# Altium integrated library TI_Logic_Flip-Flop,Latch,Register.IntLib: 2598 symbols (part 12 of 122)
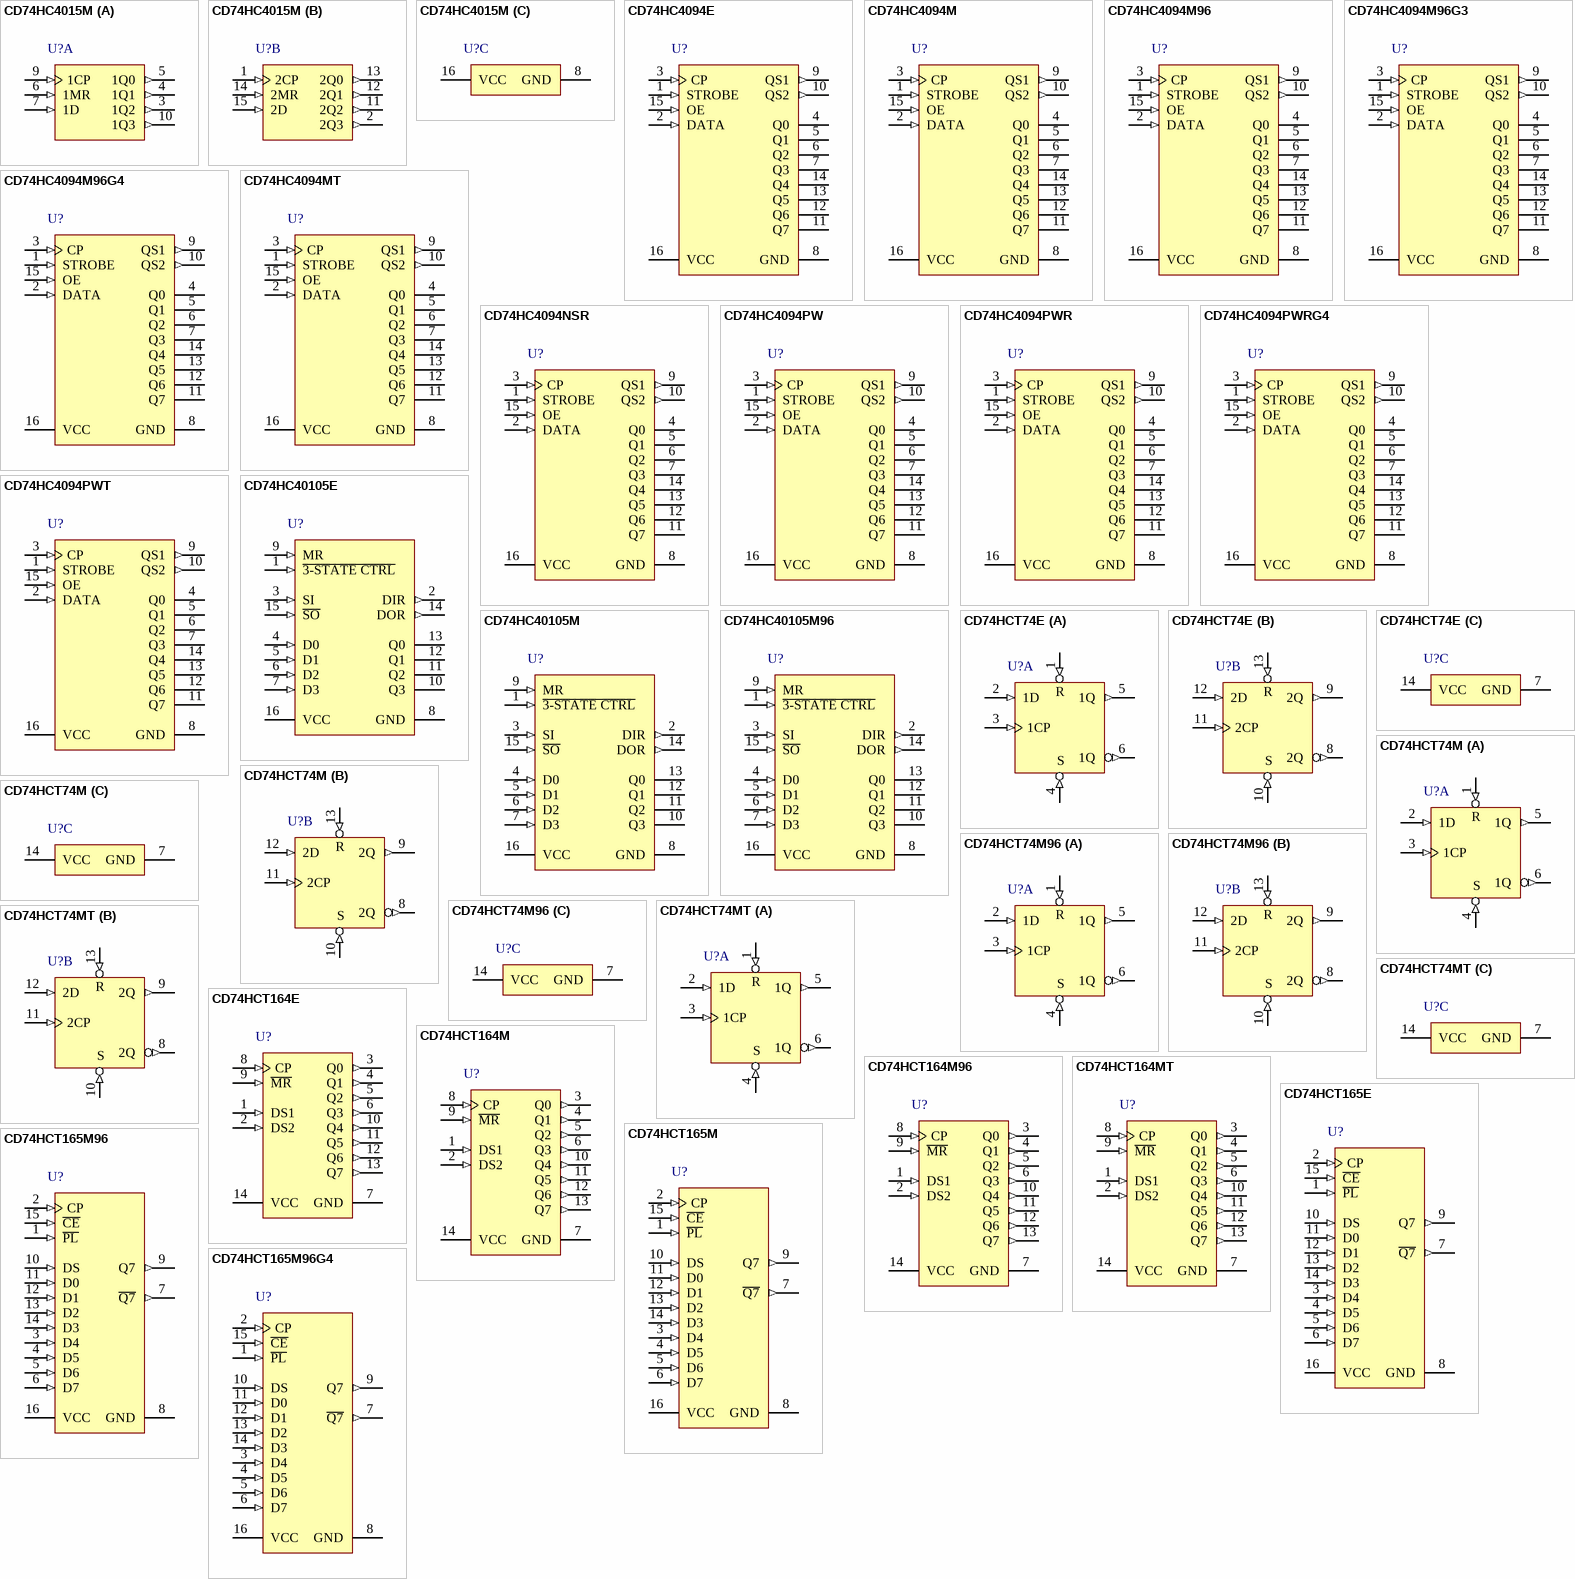
[diagram p150: symbols CD74HC4015M to CD74HCT165M96G4]

## CD74HC4094M96
designator U?
High Speed CMOS Logic 8-Stage Shift-and-Store Bus Register with 3-Stage Outputs, D0016A, LARGE T&R; Generic Part Number: CD74HC4094; Manufacturer: Texas Instruments; PartNumber: CD74HC4094M96; Technology Family: HC; VCC(Min)(V): 2; VCC(Max)(V): 6; F @ Nom Voltage(Max)(Mhz): 28; ICC @ Nom Voltage(Max)(mA): 0.08; tpd @ Nom Voltage(Max)(ns): 33; Output Drive (IOL/IOH)(Max)(mA): 5.2/-5.2; 3-State Output: Yes; Rating: Catalog; Bits: 8; DatasheetVersion: SCHS211E; PackageReference: D0016A; Voltage(Nom)(V): 6; Input Type: CMOS; Output Type: CMOS; Operating Temperature Range(C): -55 to 125; Code_JEDEC: MS-012 variation AC; ComponentLink1Description: Manufacturer URL; ComponentLink1URL: http://www.ti.com/; ComponentLink2Description: Datasheet; ComponentLink2URL: http://www.ti.com/lit/ds/symlink/cd74hc4094.pdf; ComponentLink3Description: Package Specification; ComponentLink3URL: http://www.ti.com/lit/ml/mpds178g/mpds178g.pdf
footprint D0016A_N (SOIC, 16-Leads, Body 10x4mm, Pitch 1.27mm, IPC Medium Density)
footprint D0016A_M (SOIC, 16-Leads, Body 10x4mm, Pitch 1.27mm, IPC Low Density)
footprint D0016A_L (SOIC, 16-Leads, Body 10x4mm, Pitch 1.27mm, IPC High Density)
pins: 1 STROBE (in), 2 DATA (in), 3 CP (in), 4 Q0 (hiz), 5 Q1 (hiz), 6 Q2 (hiz), 7 Q3 (hiz), 8 GND (power), 9 QS1 (out), 10 QS2 (out), 11 Q7 (hiz), 12 Q6 (hiz), 13 Q5 (hiz), 14 Q4 (hiz), 15 OE (in), 16 VCC (power)

## CD74HC4094M96G3
designator U?
High Speed CMOS Logic 8-Stage Shift-and-Store Bus Register with 3-Stage Outputs, D0016A, LARGE T&R; Generic Part Number: CD74HC4094; Manufacturer: Texas Instruments; PartNumber: CD74HC4094M96G3; Technology Family: HC; VCC(Min)(V): 2; VCC(Max)(V): 6; F @ Nom Voltage(Max)(Mhz): 28; ICC @ Nom Voltage(Max)(mA): 0.08; tpd @ Nom Voltage(Max)(ns): 33; Output Drive (IOL/IOH)(Max)(mA): 5.2/-5.2; 3-State Output: Yes; Rating: Catalog; Bits: 8; DatasheetVersion: SCHS211E; PackageReference: D0016A; Voltage(Nom)(V): 6; Input Type: CMOS; Output Type: CMOS; Operating Temperature Range(C): -55 to 125; Code_JEDEC: MS-012 variation AC; ComponentLink1Description: Manufacturer URL; ComponentLink1URL: http://www.ti.com/; ComponentLink2Description: Datasheet; ComponentLink2URL: http://www.ti.com/lit/ds/symlink/cd74hc4094.pdf; ComponentLink3Description: Package Specification; ComponentLink3URL: http://www.ti.com/lit/ml/mpds178g/mpds178g.pdf
footprint D0016A_N (SOIC, 16-Leads, Body 10x4mm, Pitch 1.27mm, IPC Medium Density)
footprint D0016A_M (SOIC, 16-Leads, Body 10x4mm, Pitch 1.27mm, IPC Low Density)
footprint D0016A_L (SOIC, 16-Leads, Body 10x4mm, Pitch 1.27mm, IPC High Density)
pins: 1 STROBE (in), 2 DATA (in), 3 CP (in), 4 Q0 (hiz), 5 Q1 (hiz), 6 Q2 (hiz), 7 Q3 (hiz), 8 GND (power), 9 QS1 (out), 10 QS2 (out), 11 Q7 (hiz), 12 Q6 (hiz), 13 Q5 (hiz), 14 Q4 (hiz), 15 OE (in), 16 VCC (power)

## CD74HC4094M96G4
designator U?
High Speed CMOS Logic 8-Stage Shift-and-Store Bus Register with 3-Stage Outputs, D0016A, LARGE T&R; Generic Part Number: CD74HC4094; Manufacturer: Texas Instruments; PartNumber: CD74HC4094M96G4; Technology Family: HC; VCC(Min)(V): 2; VCC(Max)(V): 6; F @ Nom Voltage(Max)(Mhz): 28; ICC @ Nom Voltage(Max)(mA): 0.08; tpd @ Nom Voltage(Max)(ns): 33; Output Drive (IOL/IOH)(Max)(mA): 5.2/-5.2; 3-State Output: Yes; Rating: Catalog; Bits: 8; DatasheetVersion: SCHS211E; PackageReference: D0016A; Voltage(Nom)(V): 6; Input Type: CMOS; Output Type: CMOS; Operating Temperature Range(C): -55 to 125; Code_JEDEC: MS-012 variation AC; ComponentLink1Description: Manufacturer URL; ComponentLink1URL: http://www.ti.com/; ComponentLink2Description: Datasheet; ComponentLink2URL: http://www.ti.com/lit/ds/symlink/cd74hc4094.pdf; ComponentLink3Description: Package Specification; ComponentLink3URL: http://www.ti.com/lit/ml/mpds178g/mpds178g.pdf
footprint D0016A_N (SOIC, 16-Leads, Body 10x4mm, Pitch 1.27mm, IPC Medium Density)
footprint D0016A_M (SOIC, 16-Leads, Body 10x4mm, Pitch 1.27mm, IPC Low Density)
footprint D0016A_L (SOIC, 16-Leads, Body 10x4mm, Pitch 1.27mm, IPC High Density)
pins: 1 STROBE (in), 2 DATA (in), 3 CP (in), 4 Q0 (hiz), 5 Q1 (hiz), 6 Q2 (hiz), 7 Q3 (hiz), 8 GND (power), 9 QS1 (out), 10 QS2 (out), 11 Q7 (hiz), 12 Q6 (hiz), 13 Q5 (hiz), 14 Q4 (hiz), 15 OE (in), 16 VCC (power)

## CD74HC4094MT
designator U?
High Speed CMOS Logic 8-Stage Shift-and-Store Bus Register with 3-Stage Outputs, D0016A, SMALL T&R; Generic Part Number: CD74HC4094; Manufacturer: Texas Instruments; PartNumber: CD74HC4094MT; Technology Family: HC; VCC(Min)(V): 2; VCC(Max)(V): 6; F @ Nom Voltage(Max)(Mhz): 28; ICC @ Nom Voltage(Max)(mA): 0.08; tpd @ Nom Voltage(Max)(ns): 33; Output Drive (IOL/IOH)(Max)(mA): 5.2/-5.2; 3-State Output: Yes; Rating: Catalog; Bits: 8; DatasheetVersion: SCHS211E; PackageReference: D0016A; Voltage(Nom)(V): 6; Input Type: CMOS; Output Type: CMOS; Operating Temperature Range(C): -55 to 125; Code_JEDEC: MS-012 variation AC; ComponentLink1Description: Manufacturer URL; ComponentLink1URL: http://www.ti.com/; ComponentLink2Description: Datasheet; ComponentLink2URL: http://www.ti.com/lit/ds/symlink/cd74hc4094.pdf; ComponentLink3Description: Package Specification; ComponentLink3URL: http://www.ti.com/lit/ml/mpds178g/mpds178g.pdf
footprint D0016A_N (SOIC, 16-Leads, Body 10x4mm, Pitch 1.27mm, IPC Medium Density)
footprint D0016A_M (SOIC, 16-Leads, Body 10x4mm, Pitch 1.27mm, IPC Low Density)
footprint D0016A_L (SOIC, 16-Leads, Body 10x4mm, Pitch 1.27mm, IPC High Density)
pins: 1 STROBE (in), 2 DATA (in), 3 CP (in), 4 Q0 (hiz), 5 Q1 (hiz), 6 Q2 (hiz), 7 Q3 (hiz), 8 GND (power), 9 QS1 (out), 10 QS2 (out), 11 Q7 (hiz), 12 Q6 (hiz), 13 Q5 (hiz), 14 Q4 (hiz), 15 OE (in), 16 VCC (power)

## CD74HC4094NSR
designator U?
High Speed CMOS Logic 8-Stage Shift-and-Store Bus Register with 3-Stage Outputs, NS0016A, LARGE T&R; Generic Part Number: CD74HC4094; Manufacturer: Texas Instruments; PartNumber: CD74HC4094NSR; Technology Family: HC; VCC(Min)(V): 2; VCC(Max)(V): 6; F @ Nom Voltage(Max)(Mhz): 28; ICC @ Nom Voltage(Max)(mA): 0.08; tpd @ Nom Voltage(Max)(ns): 33; Output Drive (IOL/IOH)(Max)(mA): 5.2/-5.2; 3-State Output: Yes; Rating: Catalog; DatasheetVersion: SCHS211E; PackageReference: NS0016A; Voltage(Nom)(V): 6; Input Type: CMOS; Output Type: CMOS; Operating Temperature Range(C): -55 to 125; ComponentLink1Description: Manufacturer URL; ComponentLink1URL: http://www.ti.com/; ComponentLink2Description: Datasheet; ComponentLink2URL: http://www.ti.com/lit/ds/symlink/cd74hc4094.pdf; ComponentLink3Description: Package Specification; ComponentLink3URL: http://www.ti.com/lit/ml/msop002a/msop002a.pdf
footprint NS0016A_N (SOIC,16-Leads,Body 10.5x5.6mm,Pitch 1.27mm,IPC Medium Density)
footprint NS0016A_M (SOIC,16-Leads,Body 10.5x5.6mm,Pitch 1.27mm,IPC Low Density)
footprint NS0016A_L (SOIC,16-Leads,Body 10.5x5.6mm,Pitch 1.27mm,IPC High Density)
pins: 1 STROBE (in), 2 DATA (in), 3 CP (in), 4 Q0 (hiz), 5 Q1 (hiz), 6 Q2 (hiz), 7 Q3 (hiz), 8 GND (power), 9 QS1 (out), 10 QS2 (out), 11 Q7 (hiz), 12 Q6 (hiz), 13 Q5 (hiz), 14 Q4 (hiz), 15 OE (in), 16 VCC (power)

## CD74HC4094PW
designator U?
High Speed CMOS Logic 8-Stage Shift-and-Store Bus Register with 3-Stage Outputs, PW0016A, TUBE; Generic Part Number: CD74HC4094; Manufacturer: Texas Instruments; PartNumber: CD74HC4094PW; Technology Family: HC; VCC(Min)(V): 2; VCC(Max)(V): 6; F @ Nom Voltage(Max)(Mhz): 28; ICC @ Nom Voltage(Max)(mA): 0.08; tpd @ Nom Voltage(Max)(ns): 33; Output Drive (IOL/IOH)(Max)(mA): 5.2/-5.2; 3-State Output: Yes; Rating: Catalog; Bits: 8; DatasheetVersion: SCHS211E; PackageReference: PW0016A; Voltage(Nom)(V): 6; Input Type: CMOS; Output Type: CMOS; Operating Temperature Range(C): -55 to 125; Code_JEDEC: MO-153; ComponentLink1Description: Manufacturer URL; ComponentLink1URL: http://www.ti.com/; ComponentLink2Description: Datasheet; ComponentLink2URL: http://www.ti.com/lit/ds/symlink/cd74hc4094.pdf; ComponentLink3Description: Package Specification; ComponentLink3URL: http://www.ti.com/lit/ml/mpds361/mpds361.pdf
footprint PW0016A_N (SOP, 16-Leads, Body 5.1x4.5mm, Pitch 0.65mm, IPC Medium Density)
footprint PW0016A_M (SOP, 16-Leads, Body 5.1x4.5mm, Pitch 0.65mm, IPC Low Density)
footprint PW0016A_L (SOP, 16-Leads, Body 5.1x4.5mm, Pitch 0.65mm, IPC High Density)
pins: 1 STROBE (in), 2 DATA (in), 3 CP (in), 4 Q0 (hiz), 5 Q1 (hiz), 6 Q2 (hiz), 7 Q3 (hiz), 8 GND (power), 9 QS1 (out), 10 QS2 (out), 11 Q7 (hiz), 12 Q6 (hiz), 13 Q5 (hiz), 14 Q4 (hiz), 15 OE (in), 16 VCC (power)

## CD74HC4094PWR
designator U?
High Speed CMOS Logic 8-Stage Shift-and-Store Bus Register with 3-Stage Outputs, PW0016A, LARGE T&R; Generic Part Number: CD74HC4094; Manufacturer: Texas Instruments; PartNumber: CD74HC4094PWR; Technology Family: HC; VCC(Min)(V): 2; VCC(Max)(V): 6; F @ Nom Voltage(Max)(Mhz): 28; ICC @ Nom Voltage(Max)(mA): 0.08; tpd @ Nom Voltage(Max)(ns): 33; Output Drive (IOL/IOH)(Max)(mA): 5.2/-5.2; 3-State Output: Yes; Rating: Catalog; Bits: 8; DatasheetVersion: SCHS211E; PackageReference: PW0016A; Voltage(Nom)(V): 6; Input Type: CMOS; Output Type: CMOS; Operating Temperature Range(C): -55 to 125; Code_JEDEC: MO-153; ComponentLink1Description: Manufacturer URL; ComponentLink1URL: http://www.ti.com/; ComponentLink2Description: Datasheet; ComponentLink2URL: http://www.ti.com/lit/ds/symlink/cd74hc4094.pdf; ComponentLink3Description: Package Specification; ComponentLink3URL: http://www.ti.com/lit/ml/mpds361/mpds361.pdf
footprint PW0016A_N (SOP, 16-Leads, Body 5.1x4.5mm, Pitch 0.65mm, IPC Medium Density)
footprint PW0016A_M (SOP, 16-Leads, Body 5.1x4.5mm, Pitch 0.65mm, IPC Low Density)
footprint PW0016A_L (SOP, 16-Leads, Body 5.1x4.5mm, Pitch 0.65mm, IPC High Density)
pins: 1 STROBE (in), 2 DATA (in), 3 CP (in), 4 Q0 (hiz), 5 Q1 (hiz), 6 Q2 (hiz), 7 Q3 (hiz), 8 GND (power), 9 QS1 (out), 10 QS2 (out), 11 Q7 (hiz), 12 Q6 (hiz), 13 Q5 (hiz), 14 Q4 (hiz), 15 OE (in), 16 VCC (power)

## CD74HC4094PWRG4
designator U?
High Speed CMOS Logic 8-Stage Shift-and-Store Bus Register with 3-Stage Outputs, PW0016A, LARGE T&R; Generic Part Number: CD74HC4094; Manufacturer: Texas Instruments; PartNumber: CD74HC4094PWRG4; Technology Family: HC; VCC(Min)(V): 2; VCC(Max)(V): 6; F @ Nom Voltage(Max)(Mhz): 28; ICC @ Nom Voltage(Max)(mA): 0.08; tpd @ Nom Voltage(Max)(ns): 33; Output Drive (IOL/IOH)(Max)(mA): 5.2/-5.2; 3-State Output: Yes; Rating: Catalog; Bits: 8; DatasheetVersion: SCHS211E; PackageReference: PW0016A; Voltage(Nom)(V): 6; Input Type: CMOS; Output Type: CMOS; Operating Temperature Range(C): -55 to 125; Code_JEDEC: MO-153; ComponentLink1Description: Manufacturer URL; ComponentLink1URL: http://www.ti.com/; ComponentLink2Description: Datasheet; ComponentLink2URL: http://www.ti.com/lit/ds/symlink/cd74hc4094.pdf; ComponentLink3Description: Package Specification; ComponentLink3URL: http://www.ti.com/lit/ml/mpds361/mpds361.pdf
footprint PW0016A_N (SOP, 16-Leads, Body 5.1x4.5mm, Pitch 0.65mm, IPC Medium Density)
footprint PW0016A_M (SOP, 16-Leads, Body 5.1x4.5mm, Pitch 0.65mm, IPC Low Density)
footprint PW0016A_L (SOP, 16-Leads, Body 5.1x4.5mm, Pitch 0.65mm, IPC High Density)
pins: 1 STROBE (in), 2 DATA (in), 3 CP (in), 4 Q0 (hiz), 5 Q1 (hiz), 6 Q2 (hiz), 7 Q3 (hiz), 8 GND (power), 9 QS1 (out), 10 QS2 (out), 11 Q7 (hiz), 12 Q6 (hiz), 13 Q5 (hiz), 14 Q4 (hiz), 15 OE (in), 16 VCC (power)

## CD74HC4094PWT
designator U?
High Speed CMOS Logic 8-Stage Shift-and-Store Bus Register with 3-Stage Outputs, PW0016A, SMALL T&R; Generic Part Number: CD74HC4094; Manufacturer: Texas Instruments; PartNumber: CD74HC4094PWT; Technology Family: HC; VCC(Min)(V): 2; VCC(Max)(V): 6; F @ Nom Voltage(Max)(Mhz): 28; ICC @ Nom Voltage(Max)(mA): 0.08; tpd @ Nom Voltage(Max)(ns): 33; Output Drive (IOL/IOH)(Max)(mA): 5.2/-5.2; 3-State Output: Yes; Rating: Catalog; Bits: 8; DatasheetVersion: SCHS211E; PackageReference: PW0016A; Voltage(Nom)(V): 6; Input Type: CMOS; Output Type: CMOS; Operating Temperature Range(C): -55 to 125; Code_JEDEC: MO-153; ComponentLink1Description: Manufacturer URL; ComponentLink1URL: http://www.ti.com/; ComponentLink2Description: Datasheet; ComponentLink2URL: http://www.ti.com/lit/ds/symlink/cd74hc4094.pdf; ComponentLink3Description: Package Specification; ComponentLink3URL: http://www.ti.com/lit/ml/mpds361/mpds361.pdf
footprint PW0016A_N (SOP, 16-Leads, Body 5.1x4.5mm, Pitch 0.65mm, IPC Medium Density)
footprint PW0016A_M (SOP, 16-Leads, Body 5.1x4.5mm, Pitch 0.65mm, IPC Low Density)
footprint PW0016A_L (SOP, 16-Leads, Body 5.1x4.5mm, Pitch 0.65mm, IPC High Density)
pins: 1 STROBE (in), 2 DATA (in), 3 CP (in), 4 Q0 (hiz), 5 Q1 (hiz), 6 Q2 (hiz), 7 Q3 (hiz), 8 GND (power), 9 QS1 (out), 10 QS2 (out), 11 Q7 (hiz), 12 Q6 (hiz), 13 Q5 (hiz), 14 Q4 (hiz), 15 OE (in), 16 VCC (power)

## CD74HC40105E
designator U?
High Speed CMOS Logic 4-Bit by 16-Word FIFO Register, N0016A, TUBE; Generic Part Number: CD74HC40105; Manufacturer: Texas Instruments; PartNumber: CD74HC40105E; DatasheetVersion: SCHS222C; PackageReference: N0016A; Code_JEDEC: MS-001; ComponentLink1Description: Manufacturer URL; ComponentLink1URL: http://www.ti.com/; ComponentLink2Description: Datasheet; ComponentLink2URL: http://www.ti.com/lit/ds/symlink/cd74hc40105.pdf; ComponentLink3Description: Package Specification; ComponentLink3URL: http://www.ti.com/lit/ml/mpdi002c/mpdi002c.pdf
footprint N0016A (DIP, 16-Leads, Body 19.7x6.6mm, Pitch 2.54mm)
pins: 1 ~{3-STATE CTRL} (in), 2 DIR (out), 3 SI (in), 4 D0 (in), 5 D1 (in), 6 D2 (in), 7 D3 (in), 8 GND (power), 9 MR (in), 10 Q3 (hiz), 11 Q2 (hiz), 12 Q1 (hiz), 13 Q0 (hiz), 14 DOR (out), 15 ~{SO} (in), 16 VCC (power)

## CD74HC40105M
designator U?
High Speed CMOS Logic 4-Bit by 16-Word FIFO Register, D0016A, TUBE; Generic Part Number: CD74HC40105; Manufacturer: Texas Instruments; PartNumber: CD74HC40105M; DatasheetVersion: SCHS222C; PackageReference: D0016A; Code_JEDEC: MS-012 variation AC; ComponentLink1Description: Manufacturer URL; ComponentLink1URL: http://www.ti.com/; ComponentLink2Description: Datasheet; ComponentLink2URL: http://www.ti.com/lit/ds/symlink/cd74hc40105.pdf; ComponentLink3Description: Package Specification; ComponentLink3URL: http://www.ti.com/lit/ml/mpds178g/mpds178g.pdf
footprint D0016A_N (SOIC, 16-Leads, Body 10x4mm, Pitch 1.27mm, IPC Medium Density)
footprint D0016A_M (SOIC, 16-Leads, Body 10x4mm, Pitch 1.27mm, IPC Low Density)
footprint D0016A_L (SOIC, 16-Leads, Body 10x4mm, Pitch 1.27mm, IPC High Density)
pins: 1 ~{3-STATE CTRL} (in), 2 DIR (out), 3 SI (in), 4 D0 (in), 5 D1 (in), 6 D2 (in), 7 D3 (in), 8 GND (power), 9 MR (in), 10 Q3 (hiz), 11 Q2 (hiz), 12 Q1 (hiz), 13 Q0 (hiz), 14 DOR (out), 15 ~{SO} (in), 16 VCC (power)

## CD74HC40105M96
designator U?
High Speed CMOS Logic 4-Bit by 16-Word FIFO Register, D0016A, LARGE T&R; Generic Part Number: CD74HC40105; Manufacturer: Texas Instruments; PartNumber: CD74HC40105M96; DatasheetVersion: SCHS222C; PackageReference: D0016A; Code_JEDEC: MS-012 variation AC; ComponentLink1Description: Manufacturer URL; ComponentLink1URL: http://www.ti.com/; ComponentLink2Description: Datasheet; ComponentLink2URL: http://www.ti.com/lit/ds/symlink/cd74hc40105.pdf; ComponentLink3Description: Package Specification; ComponentLink3URL: http://www.ti.com/lit/ml/mpds178g/mpds178g.pdf
footprint D0016A_N (SOIC, 16-Leads, Body 10x4mm, Pitch 1.27mm, IPC Medium Density)
footprint D0016A_M (SOIC, 16-Leads, Body 10x4mm, Pitch 1.27mm, IPC Low Density)
footprint D0016A_L (SOIC, 16-Leads, Body 10x4mm, Pitch 1.27mm, IPC High Density)
pins: 1 ~{3-STATE CTRL} (in), 2 DIR (out), 3 SI (in), 4 D0 (in), 5 D1 (in), 6 D2 (in), 7 D3 (in), 8 GND (power), 9 MR (in), 10 Q3 (hiz), 11 Q2 (hiz), 12 Q1 (hiz), 13 Q0 (hiz), 14 DOR (out), 15 ~{SO} (in), 16 VCC (power)

## CD74HCT74E
designator U?
High Speed CMOS Logic Dual Positive-Edge-Triggered D Flip-Flops with Set and Reset, N0014A, TUBE; Generic Part Number: CD74HCT74; Manufacturer: Texas Instruments; PartNumber: CD74HCT74E; VCC(Min)(V): 4.5; VCC(Max)(V): 5.5; ICC @ Nom Voltage(Max)(mA): 0.04; Input Type: TTL; Bits(#): 2; F @ Nom Voltage(Max)(Mhz): 25; Rating: Catalog; Technology Family: HCT; Voltage(Nom)(V): 5; Schmitt Trigger: No; Output Drive (IOL/IOH)(Max)(mA): 4/-4; Output Logic: Inverted,Non-inverted; tpd @ Nom Voltage(Max)(ns): 44; DatasheetVersion: SCHS124D; PackageReference: N0014A; Supplier 1: Digi-Key; Supplier Part Number 1: 296-2132-5-ND; Supplier 2: Farnell; Supplier Part Number 2: 1105969; Supplier 3: Newark; Supplier Part Number 3: 67K0131; Supplier 4: Mouser; Supplier Part Number 4: 595-CD74HCT74E; Output Type: CMOS; Operating Temperature Range(C): -55 to 125; 3-State Output: No; Code_JEDEC: MS-001; ComponentLink1Description: Manufacturer URL; ComponentLink1URL: http://www.ti.com/; ComponentLink2Description: Datasheet; ComponentLink2URL: http://www.ti.com/lit/ds/symlink/cd74hct74.pdf; ComponentLink3Description: Package Specification; ComponentLink3URL: http://www.ti.com/lit/ml/mpdi002c/mpdi002c.pdf
footprint N0014A (DIP, 14-Leads, Body 19.7x6.6mm, Pitch 2.54mm)
part A pins: 1 1~{R} (in), 2 1D (in), 3 1CP (in), 4 1~{S} (in), 5 1Q (out), 6 1Q (out)
part B pins: 8 2Q (out), 9 2Q (out), 10 2~{S} (in), 11 2CP (in), 12 2D (in), 13 2~{R} (in)
part C pins: 7 GND (power), 14 VCC (power)
part A text: R; S
part B text: R; S

## CD74HCT74M
designator U?
High Speed CMOS Logic Dual Positive-Edge-Triggered D Flip-Flops with Set and Reset, D0014A, TUBE; Generic Part Number: CD74HCT74; Manufacturer: Texas Instruments; PartNumber: CD74HCT74M; VCC(Min)(V): 4.5; VCC(Max)(V): 5.5; ICC @ Nom Voltage(Max)(mA): 0.04; Input Type: TTL; Bits(#): 2; F @ Nom Voltage(Max)(Mhz): 25; Rating: Catalog; Technology Family: HCT; Voltage(Nom)(V): 5; Schmitt Trigger: No; Output Drive (IOL/IOH)(Max)(mA): 4/-4; Output Logic: Inverted,Non-inverted; tpd @ Nom Voltage(Max)(ns): 44; DatasheetVersion: SCHS124D; PackageReference: D0014A; Supplier 1: Digi-Key; Supplier Part Number 1: 296-9299-5-ND; Supplier 2: Farnell; Supplier Part Number 2: 1214442; Supplier 3: Newark; Supplier Part Number 3: 96K7939; Supplier 4: Mouser; Supplier Part Number 4: 595-CD74HCT74M; Output Type: CMOS; Operating Temperature Range(C): -55 to 125; 3-State Output: No; Code_JEDEC: MS-012; ComponentLink1Description: Manufacturer URL; ComponentLink1URL: http://www.ti.com/; ComponentLink2Description: Datasheet; ComponentLink2URL: http://www.ti.com/lit/ds/symlink/cd74hct74.pdf; ComponentLink3Description: Package Specification; ComponentLink3URL: http://www.ti.com/lit/ml/mpds177g/mpds177g.pdf
footprint D0014A_N (SOIC, 14-Leads, Body 8.75x4mm, Pitch 1.27mm, IPC Medium Density)
footprint D0014A_M (SOIC, 14-Leads, Body 8.75x4mm, Pitch 1.27mm, IPC Low Density)
footprint D0014A_L (SOIC, 14-Leads, Body 8.75x4mm, Pitch 1.27mm, IPC High Density)
part A pins: 1 1~{R} (in), 2 1D (in), 3 1CP (in), 4 1~{S} (in), 5 1Q (out), 6 1Q (out)
part B pins: 8 2Q (out), 9 2Q (out), 10 2~{S} (in), 11 2CP (in), 12 2D (in), 13 2~{R} (in)
part C pins: 7 GND (power), 14 VCC (power)
part A text: R; S
part B text: R; S

## CD74HCT74M96
designator U?
High Speed CMOS Logic Dual Positive-Edge-Triggered D Flip-Flops with Set and Reset, D0014A, LARGE T&R; Generic Part Number: CD74HCT74; Manufacturer: Texas Instruments; PartNumber: CD74HCT74M96; VCC(Min)(V): 4.5; VCC(Max)(V): 5.5; ICC @ Nom Voltage(Max)(mA): 0.04; Input Type: TTL; Bits(#): 2; F @ Nom Voltage(Max)(Mhz): 25; Rating: Catalog; Technology Family: HCT; Voltage(Nom)(V): 5; Schmitt Trigger: No; Output Drive (IOL/IOH)(Max)(mA): 4/-4; Output Logic: Inverted,Non-inverted; tpd @ Nom Voltage(Max)(ns): 44; DatasheetVersion: SCHS124D; PackageReference: D0014A; Supplier 1: Digi-Key; Supplier Part Number 1: 296-14561-2-ND; Supplier 2: Digi-Key; Supplier Part Number 2: 296-14561-1-ND; Supplier 3: Digi-Key; Supplier Part Number 3: 296-14561-6-ND; Supplier 4: Newark; Supplier Part Number 4: 05B6080; Supplier 5: Mouser; Supplier Part Number 5: 595-CD74HCT74M96; Output Type: CMOS; Operating Temperature Range(C): -55 to 125; 3-State Output: No; Code_JEDEC: MS-012; ComponentLink1Description: Manufacturer URL; ComponentLink1URL: http://www.ti.com/; ComponentLink2Description: Datasheet; ComponentLink2URL: http://www.ti.com/lit/ds/symlink/cd74hct74.pdf; ComponentLink3Description: Package Specification; ComponentLink3URL: http://www.ti.com/lit/ml/mpds177g/mpds177g.pdf
footprint D0014A_N (SOIC, 14-Leads, Body 8.75x4mm, Pitch 1.27mm, IPC Medium Density)
footprint D0014A_M (SOIC, 14-Leads, Body 8.75x4mm, Pitch 1.27mm, IPC Low Density)
footprint D0014A_L (SOIC, 14-Leads, Body 8.75x4mm, Pitch 1.27mm, IPC High Density)
part A pins: 1 1~{R} (in), 2 1D (in), 3 1CP (in), 4 1~{S} (in), 5 1Q (out), 6 1Q (out)
part B pins: 8 2Q (out), 9 2Q (out), 10 2~{S} (in), 11 2CP (in), 12 2D (in), 13 2~{R} (in)
part C pins: 7 GND (power), 14 VCC (power)
part A text: R; S
part B text: R; S

## CD74HCT74MT
designator U?
High Speed CMOS Logic Dual Positive-Edge-Triggered D Flip-Flops with Set and Reset, D0014A, SMALL T&R; Generic Part Number: CD74HCT74; Manufacturer: Texas Instruments; PartNumber: CD74HCT74MT; VCC(Min)(V): 4.5; VCC(Max)(V): 5.5; ICC @ Nom Voltage(Max)(mA): 0.04; Input Type: TTL; Bits(#): 2; F @ Nom Voltage(Max)(Mhz): 25; Rating: Catalog; Technology Family: HCT; Voltage(Nom)(V): 5; Schmitt Trigger: No; Output Drive (IOL/IOH)(Max)(mA): 4/-4; Output Logic: Inverted,Non-inverted; tpd @ Nom Voltage(Max)(ns): 44; DatasheetVersion: SCHS124D; PackageReference: D0014A; Supplier 1: Digi-Key; Supplier Part Number 1: CD74HCT74MT-ND; Supplier 2: Mouser; Supplier Part Number 2: 595-CD74HCT74MT; Output Type: CMOS; Operating Temperature Range(C): -55 to 125; 3-State Output: No; Code_JEDEC: MS-012; ComponentLink1Description: Manufacturer URL; ComponentLink1URL: http://www.ti.com/; ComponentLink2Description: Datasheet; ComponentLink2URL: http://www.ti.com/lit/ds/symlink/cd74hct74.pdf; ComponentLink3Description: Package Specification; ComponentLink3URL: http://www.ti.com/lit/ml/mpds177g/mpds177g.pdf
footprint D0014A_N (SOIC, 14-Leads, Body 8.75x4mm, Pitch 1.27mm, IPC Medium Density)
footprint D0014A_M (SOIC, 14-Leads, Body 8.75x4mm, Pitch 1.27mm, IPC Low Density)
footprint D0014A_L (SOIC, 14-Leads, Body 8.75x4mm, Pitch 1.27mm, IPC High Density)
part A pins: 1 1~{R} (in), 2 1D (in), 3 1CP (in), 4 1~{S} (in), 5 1Q (out), 6 1Q (out)
part B pins: 8 2Q (out), 9 2Q (out), 10 2~{S} (in), 11 2CP (in), 12 2D (in), 13 2~{R} (in)
part C pins: 7 GND (power), 14 VCC (power)
part A text: R; S
part B text: R; S

## CD74HCT164E
designator U?
High Speed CMOS Logic 8-Bit Serial-In/Parallel-Out Shift Register, N0014A, TUBE; Generic Part Number: CD74HCT164; Manufacturer: Texas Instruments; PartNumber: CD74HCT164E; Technology Family: HCT; VCC(Min)(V): 4.5; Bits: 4; DatasheetVersion: SCHS155C; PackageReference: N0014A; Code_JEDEC: MS-001; ComponentLink1Description: Manufacturer URL; ComponentLink1URL: http://www.ti.com/; ComponentLink2Description: Datasheet; ComponentLink2URL: http://www.ti.com/lit/ds/symlink/cd74hct164.pdf; ComponentLink3Description: Package Specification; ComponentLink3URL: http://www.ti.com/lit/ml/mpdi002c/mpdi002c.pdf
footprint N0014A (DIP, 14-Leads, Body 19.7x6.6mm, Pitch 2.54mm)
pins: 1 DS1 (in), 2 DS2 (in), 3 Q0 (out), 4 Q1 (out), 5 Q2 (out), 6 Q3 (out), 7 GND (power), 8 CP (in), 9 ~{MR} (in), 10 Q4 (out), 11 Q5 (out), 12 Q6 (out), 13 Q7 (out), 14 VCC (power)

## CD74HCT164M
designator U?
High Speed CMOS Logic 8-Bit Serial-In/Parallel-Out Shift Register, D0014A, TUBE; Generic Part Number: CD74HCT164; Manufacturer: Texas Instruments; PartNumber: CD74HCT164M; Technology Family: HCT; VCC(Min)(V): 4.5; Input Type: TTL; 3-State Output: No; Rating: Catalog; Bits: 8; DatasheetVersion: SCHS155C; PackageReference: D0014A; Output Type: CMOS; Operating Temperature Range(C): -55 to 125; Code_JEDEC: MS-012; ComponentLink1Description: Manufacturer URL; ComponentLink1URL: http://www.ti.com/; ComponentLink2Description: Datasheet; ComponentLink2URL: http://www.ti.com/lit/ds/symlink/cd74hct164.pdf; ComponentLink3Description: Package Specification; ComponentLink3URL: http://www.ti.com/lit/ml/mpds177g/mpds177g.pdf
footprint D0014A_N (SOIC, 14-Leads, Body 8.75x4mm, Pitch 1.27mm, IPC Medium Density)
footprint D0014A_M (SOIC, 14-Leads, Body 8.75x4mm, Pitch 1.27mm, IPC Low Density)
footprint D0014A_L (SOIC, 14-Leads, Body 8.75x4mm, Pitch 1.27mm, IPC High Density)
pins: 1 DS1 (in), 2 DS2 (in), 3 Q0 (out), 4 Q1 (out), 5 Q2 (out), 6 Q3 (out), 7 GND (power), 8 CP (in), 9 ~{MR} (in), 10 Q4 (out), 11 Q5 (out), 12 Q6 (out), 13 Q7 (out), 14 VCC (power)

## CD74HCT164M96
designator U?
High Speed CMOS Logic 8-Bit Serial-In/Parallel-Out Shift Register, D0014A, LARGE T&R; Generic Part Number: CD74HCT164; Manufacturer: Texas Instruments; PartNumber: CD74HCT164M96; Technology Family: HCT; VCC(Min)(V): 4.5; Input Type: TTL; 3-State Output: No; Rating: Catalog; Bits: 8; DatasheetVersion: SCHS155C; PackageReference: D0014A; Output Type: CMOS; Operating Temperature Range(C): -55 to 125; Code_JEDEC: MS-012; ComponentLink1Description: Manufacturer URL; ComponentLink1URL: http://www.ti.com/; ComponentLink2Description: Datasheet; ComponentLink2URL: http://www.ti.com/lit/ds/symlink/cd74hct164.pdf; ComponentLink3Description: Package Specification; ComponentLink3URL: http://www.ti.com/lit/ml/mpds177g/mpds177g.pdf
footprint D0014A_N (SOIC, 14-Leads, Body 8.75x4mm, Pitch 1.27mm, IPC Medium Density)
footprint D0014A_M (SOIC, 14-Leads, Body 8.75x4mm, Pitch 1.27mm, IPC Low Density)
footprint D0014A_L (SOIC, 14-Leads, Body 8.75x4mm, Pitch 1.27mm, IPC High Density)
pins: 1 DS1 (in), 2 DS2 (in), 3 Q0 (out), 4 Q1 (out), 5 Q2 (out), 6 Q3 (out), 7 GND (power), 8 CP (in), 9 ~{MR} (in), 10 Q4 (out), 11 Q5 (out), 12 Q6 (out), 13 Q7 (out), 14 VCC (power)

## CD74HCT164MT
designator U?
High Speed CMOS Logic 8-Bit Serial-In/Parallel-Out Shift Register, D0014A, SMALL T&R; Generic Part Number: CD74HCT164; Manufacturer: Texas Instruments; PartNumber: CD74HCT164MT; Technology Family: HCT; VCC(Min)(V): 4.5; Input Type: TTL; 3-State Output: No; Rating: Catalog; Bits: 8; DatasheetVersion: SCHS155C; PackageReference: D0014A; Output Type: CMOS; Operating Temperature Range(C): -55 to 125; Code_JEDEC: MS-012; ComponentLink1Description: Manufacturer URL; ComponentLink1URL: http://www.ti.com/; ComponentLink2Description: Datasheet; ComponentLink2URL: http://www.ti.com/lit/ds/symlink/cd74hct164.pdf; ComponentLink3Description: Package Specification; ComponentLink3URL: http://www.ti.com/lit/ml/mpds177g/mpds177g.pdf
footprint D0014A_N (SOIC, 14-Leads, Body 8.75x4mm, Pitch 1.27mm, IPC Medium Density)
footprint D0014A_M (SOIC, 14-Leads, Body 8.75x4mm, Pitch 1.27mm, IPC Low Density)
footprint D0014A_L (SOIC, 14-Leads, Body 8.75x4mm, Pitch 1.27mm, IPC High Density)
pins: 1 DS1 (in), 2 DS2 (in), 3 Q0 (out), 4 Q1 (out), 5 Q2 (out), 6 Q3 (out), 7 GND (power), 8 CP (in), 9 ~{MR} (in), 10 Q4 (out), 11 Q5 (out), 12 Q6 (out), 13 Q7 (out), 14 VCC (power)

## CD74HCT165E
designator U?
High Speed CMOS Logic 8-Bit Parallel-In/Serial-Out Shift Register, N0016A, TUBE; Generic Part Number: CD74HCT165; Manufacturer: Texas Instruments; PartNumber: CD74HCT165E; Technology Family: HCT; VCC(Min)(V): 4.5; Bits: 8; DatasheetVersion: SCHS156C; PackageReference: N0016A; Code_JEDEC: MS-001; ComponentLink1Description: Manufacturer URL; ComponentLink1URL: http://www.ti.com/; ComponentLink2Description: Datasheet; ComponentLink2URL: http://www.ti.com/lit/ds/symlink/cd74hct165.pdf; ComponentLink3Description: Package Specification; ComponentLink3URL: http://www.ti.com/lit/ml/mpdi002c/mpdi002c.pdf
footprint N0016A (DIP, 16-Leads, Body 19.7x6.6mm, Pitch 2.54mm)
pins: 1 ~{PL} (in), 2 CP (in), 3 D4 (in), 4 D5 (in), 5 D6 (in), 6 D7 (in), 7 ~{Q7} (out), 8 GND (power), 9 Q7 (out), 10 DS (in), 11 D0 (in), 12 D1 (in), 13 D2 (in), 14 D3 (in), 15 ~{CE} (in), 16 VCC (power)

## CD74HCT165M
designator U?
High Speed CMOS Logic 8-Bit Parallel-In/Serial-Out Shift Register, D0016A, TUBE; Generic Part Number: CD74HCT165; Manufacturer: Texas Instruments; PartNumber: CD74HCT165M; Technology Family: HCT; VCC(Min)(V): 4.5; Bits: 8; DatasheetVersion: SCHS156C; PackageReference: D0016A; Code_JEDEC: MS-012 variation AC; ComponentLink1Description: Manufacturer URL; ComponentLink1URL: http://www.ti.com/; ComponentLink2Description: Datasheet; ComponentLink2URL: http://www.ti.com/lit/ds/symlink/cd74hct165.pdf; ComponentLink3Description: Package Specification; ComponentLink3URL: http://www.ti.com/lit/ml/mpds178g/mpds178g.pdf
footprint D0016A_N (SOIC, 16-Leads, Body 10x4mm, Pitch 1.27mm, IPC Medium Density)
footprint D0016A_M (SOIC, 16-Leads, Body 10x4mm, Pitch 1.27mm, IPC Low Density)
footprint D0016A_L (SOIC, 16-Leads, Body 10x4mm, Pitch 1.27mm, IPC High Density)
pins: 1 ~{PL} (in), 2 CP (in), 3 D4 (in), 4 D5 (in), 5 D6 (in), 6 D7 (in), 7 ~{Q7} (out), 8 GND (power), 9 Q7 (out), 10 DS (in), 11 D0 (in), 12 D1 (in), 13 D2 (in), 14 D3 (in), 15 ~{CE} (in), 16 VCC (power)

## CD74HCT165M96
designator U?
High Speed CMOS Logic 8-Bit Parallel-In/Serial-Out Shift Register, D0016A, LARGE T&R; Generic Part Number: CD74HCT165; Manufacturer: Texas Instruments; PartNumber: CD74HCT165M96; Technology Family: HCT; VCC(Min)(V): 4.5; Bits: 8; DatasheetVersion: SCHS156C; PackageReference: D0016A; Code_JEDEC: MS-012 variation AC; ComponentLink1Description: Manufacturer URL; ComponentLink1URL: http://www.ti.com/; ComponentLink2Description: Datasheet; ComponentLink2URL: http://www.ti.com/lit/ds/symlink/cd74hct165.pdf; ComponentLink3Description: Package Specification; ComponentLink3URL: http://www.ti.com/lit/ml/mpds178g/mpds178g.pdf
footprint D0016A_N (SOIC, 16-Leads, Body 10x4mm, Pitch 1.27mm, IPC Medium Density)
footprint D0016A_M (SOIC, 16-Leads, Body 10x4mm, Pitch 1.27mm, IPC Low Density)
footprint D0016A_L (SOIC, 16-Leads, Body 10x4mm, Pitch 1.27mm, IPC High Density)
pins: 1 ~{PL} (in), 2 CP (in), 3 D4 (in), 4 D5 (in), 5 D6 (in), 6 D7 (in), 7 ~{Q7} (out), 8 GND (power), 9 Q7 (out), 10 DS (in), 11 D0 (in), 12 D1 (in), 13 D2 (in), 14 D3 (in), 15 ~{CE} (in), 16 VCC (power)

## CD74HCT165M96G4
designator U?
High Speed CMOS Logic 8-Bit Parallel-In/Serial-Out Shift Register, D0016A, LARGE T&R; Generic Part Number: CD74HCT165; Manufacturer: Texas Instruments; PartNumber: CD74HCT165M96G4; Technology Family: HCT; VCC(Min)(V): 4.5; Bits: 8; DatasheetVersion: SCHS156C; PackageReference: D0016A; Code_JEDEC: MS-012 variation AC; ComponentLink1Description: Manufacturer URL; ComponentLink1URL: http://www.ti.com/; ComponentLink2Description: Datasheet; ComponentLink2URL: http://www.ti.com/lit/ds/symlink/cd74hct165.pdf; ComponentLink3Description: Package Specification; ComponentLink3URL: http://www.ti.com/lit/ml/mpds178g/mpds178g.pdf
footprint D0016A_N (SOIC, 16-Leads, Body 10x4mm, Pitch 1.27mm, IPC Medium Density)
footprint D0016A_M (SOIC, 16-Leads, Body 10x4mm, Pitch 1.27mm, IPC Low Density)
footprint D0016A_L (SOIC, 16-Leads, Body 10x4mm, Pitch 1.27mm, IPC High Density)
pins: 1 ~{PL} (in), 2 CP (in), 3 D4 (in), 4 D5 (in), 5 D6 (in), 6 D7 (in), 7 ~{Q7} (out), 8 GND (power), 9 Q7 (out), 10 DS (in), 11 D0 (in), 12 D1 (in), 13 D2 (in), 14 D3 (in), 15 ~{CE} (in), 16 VCC (power)

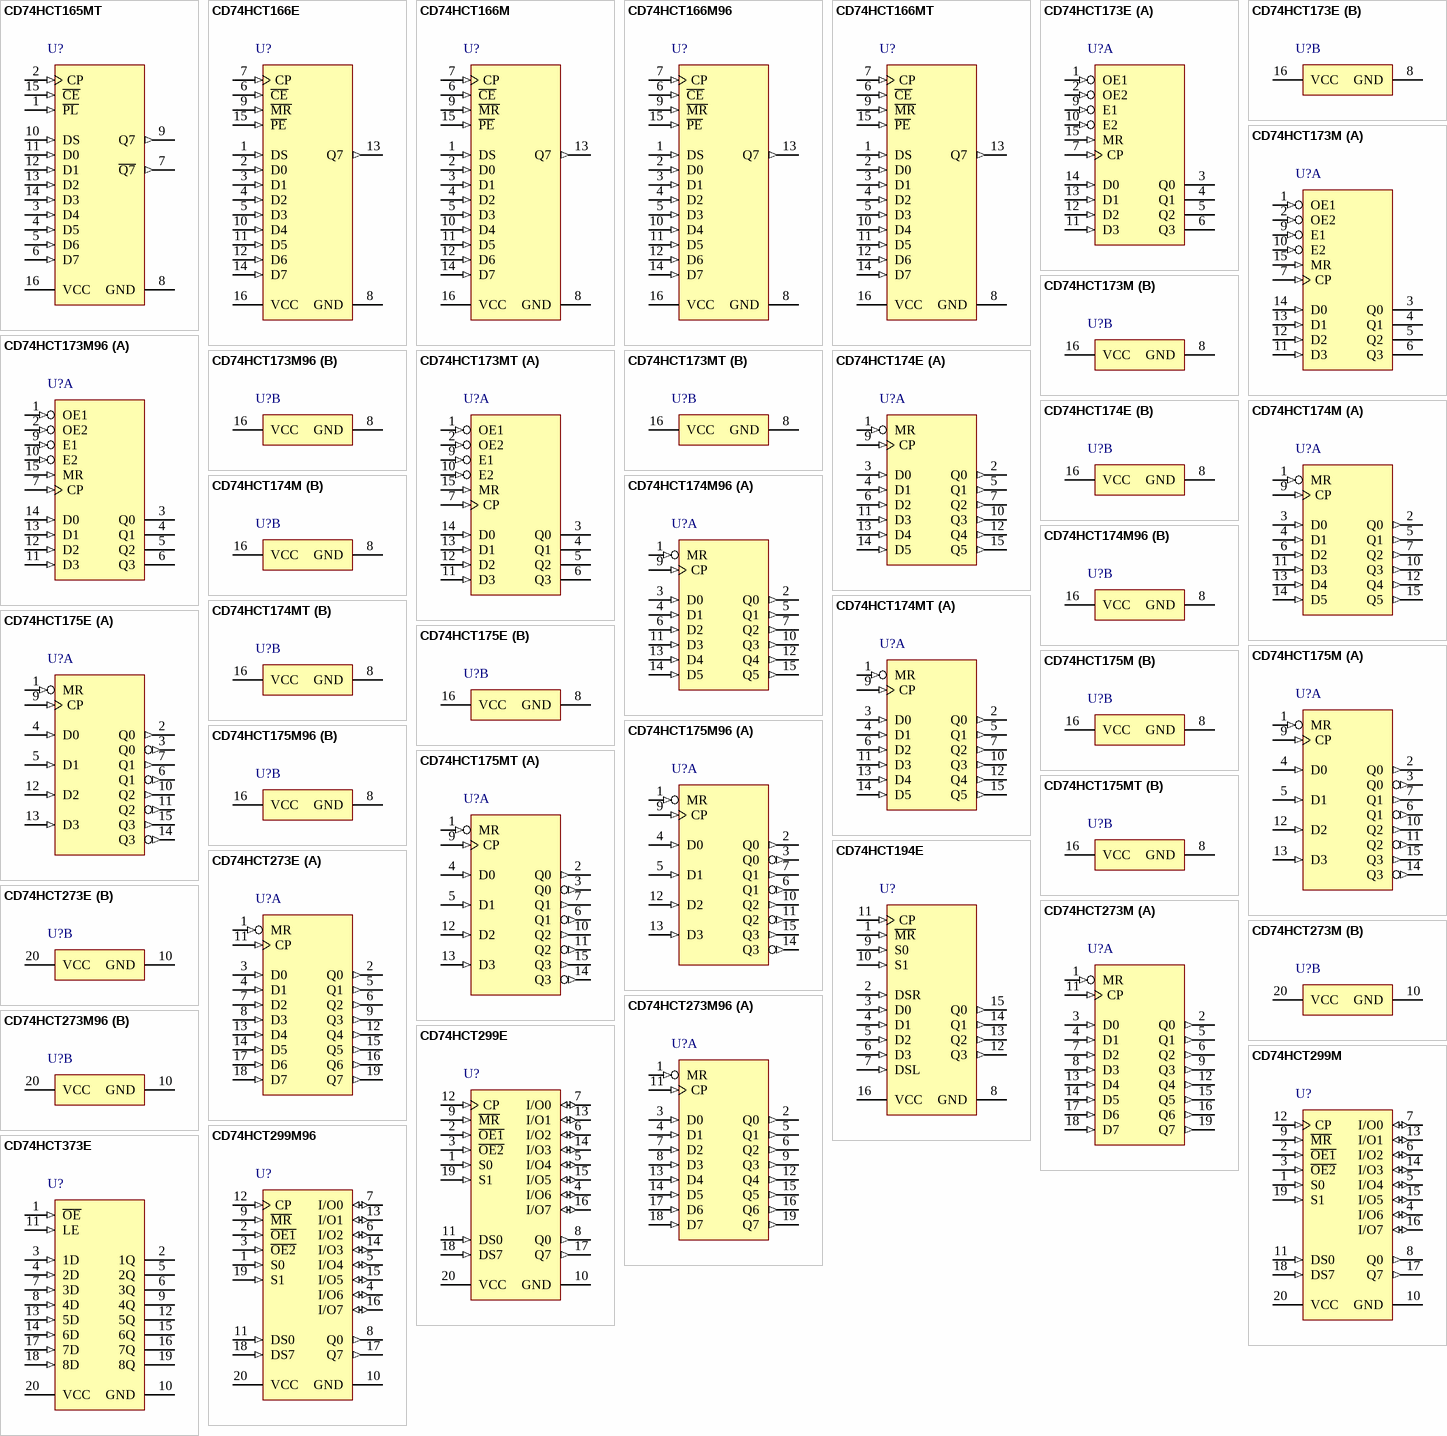
[diagram p17: symbols CD74HCT165MT to CD74HCT373E]

## CD74HCT165MT
designator U?
High Speed CMOS Logic 8-Bit Parallel-In/Serial-Out Shift Register, D0016A, SMALL T&R; Generic Part Number: CD74HCT165; Manufacturer: Texas Instruments; PartNumber: CD74HCT165MT; Technology Family: HCT; VCC(Min)(V): 4.5; Bits: 8; DatasheetVersion: SCHS156C; PackageReference: D0016A; Code_JEDEC: MS-012 variation AC; ComponentLink1Description: Manufacturer URL; ComponentLink1URL: http://www.ti.com/; ComponentLink2Description: Datasheet; ComponentLink2URL: http://www.ti.com/lit/ds/symlink/cd74hct165.pdf; ComponentLink3Description: Package Specification; ComponentLink3URL: http://www.ti.com/lit/ml/mpds178g/mpds178g.pdf
footprint D0016A_N (SOIC, 16-Leads, Body 10x4mm, Pitch 1.27mm, IPC Medium Density)
footprint D0016A_M (SOIC, 16-Leads, Body 10x4mm, Pitch 1.27mm, IPC Low Density)
footprint D0016A_L (SOIC, 16-Leads, Body 10x4mm, Pitch 1.27mm, IPC High Density)
pins: 1 ~{PL} (in), 2 CP (in), 3 D4 (in), 4 D5 (in), 5 D6 (in), 6 D7 (in), 7 ~{Q7} (out), 8 GND (power), 9 Q7 (out), 10 DS (in), 11 D0 (in), 12 D1 (in), 13 D2 (in), 14 D3 (in), 15 ~{CE} (in), 16 VCC (power)

## CD74HCT166E
designator U?
High Speed CMOS Logic 8-Bit Parallel-In/Serial-Out Shift Register, N0016A, TUBE; Generic Part Number: CD74HCT166; Manufacturer: Texas Instruments; PartNumber: CD74HCT166E; Technology Family: HCT; VCC(Min)(V): 4.5; VCC(Max)(V): 5.5; Voltage(Nom)(V): 5; F @ Nom Voltage(Max)(Mhz): 25; ICC @ Nom Voltage(Max)(mA): 0.08; tpd @ Nom Voltage(Max)(ns): 50; Output Drive (IOL/IOH)(Max)(mA): 4/-4; Input Type: TTL; 3-State Output: No; Rating: Catalog; Bits: 8; DatasheetVersion: SCHS157C; PackageReference: N0016A; Output Type: CMOS; Operating Temperature Range(C): -55 to 125; Code_JEDEC: MS-001; ComponentLink1Description: Manufacturer URL; ComponentLink1URL: http://www.ti.com/; ComponentLink2Description: Datasheet; ComponentLink2URL: http://www.ti.com/lit/ds/symlink/cd74hct166.pdf; ComponentLink3Description: Package Specification; ComponentLink3URL: http://www.ti.com/lit/ml/mpdi002c/mpdi002c.pdf
footprint N0016A (DIP, 16-Leads, Body 19.7x6.6mm, Pitch 2.54mm)
pins: 1 DS (in), 2 D0 (in), 3 D1 (in), 4 D2 (in), 5 D3 (in), 6 ~{CE} (in), 7 CP (in), 8 GND (power), 9 ~{MR} (in), 10 D4 (in), 11 D5 (in), 12 D6 (in), 13 Q7 (out), 14 D7 (in), 15 ~{PE} (in), 16 VCC (power)

## CD74HCT166M
designator U?
High Speed CMOS Logic 8-Bit Parallel-In/Serial-Out Shift Register, D0016A, TUBE; Generic Part Number: CD74HCT166; Manufacturer: Texas Instruments; PartNumber: CD74HCT166M; Technology Family: HCT; VCC(Min)(V): 4.5; Bits: 8; DatasheetVersion: SCHS157C; PackageReference: D0016A; Code_JEDEC: MS-012 variation AC; ComponentLink1Description: Manufacturer URL; ComponentLink1URL: http://www.ti.com/; ComponentLink2Description: Datasheet; ComponentLink2URL: http://www.ti.com/lit/ds/symlink/cd74hct166.pdf; ComponentLink3Description: Package Specification; ComponentLink3URL: http://www.ti.com/lit/ml/mpds178g/mpds178g.pdf
footprint D0016A_N (SOIC, 16-Leads, Body 10x4mm, Pitch 1.27mm, IPC Medium Density)
footprint D0016A_M (SOIC, 16-Leads, Body 10x4mm, Pitch 1.27mm, IPC Low Density)
footprint D0016A_L (SOIC, 16-Leads, Body 10x4mm, Pitch 1.27mm, IPC High Density)
pins: 1 DS (in), 2 D0 (in), 3 D1 (in), 4 D2 (in), 5 D3 (in), 6 ~{CE} (in), 7 CP (in), 8 GND (power), 9 ~{MR} (in), 10 D4 (in), 11 D5 (in), 12 D6 (in), 13 Q7 (out), 14 D7 (in), 15 ~{PE} (in), 16 VCC (power)

## CD74HCT166M96
designator U?
High Speed CMOS Logic 8-Bit Parallel-In/Serial-Out Shift Register, D0016A, LARGE T&R; Generic Part Number: CD74HCT166; Manufacturer: Texas Instruments; PartNumber: CD74HCT166M96; Technology Family: HCT; VCC(Min)(V): 4.5; Bits: 8; DatasheetVersion: SCHS157C; PackageReference: D0016A; Code_JEDEC: MS-012 variation AC; ComponentLink1Description: Manufacturer URL; ComponentLink1URL: http://www.ti.com/; ComponentLink2Description: Datasheet; ComponentLink2URL: http://www.ti.com/lit/ds/symlink/cd74hct166.pdf; ComponentLink3Description: Package Specification; ComponentLink3URL: http://www.ti.com/lit/ml/mpds178g/mpds178g.pdf
footprint D0016A_N (SOIC, 16-Leads, Body 10x4mm, Pitch 1.27mm, IPC Medium Density)
footprint D0016A_M (SOIC, 16-Leads, Body 10x4mm, Pitch 1.27mm, IPC Low Density)
footprint D0016A_L (SOIC, 16-Leads, Body 10x4mm, Pitch 1.27mm, IPC High Density)
pins: 1 DS (in), 2 D0 (in), 3 D1 (in), 4 D2 (in), 5 D3 (in), 6 ~{CE} (in), 7 CP (in), 8 GND (power), 9 ~{MR} (in), 10 D4 (in), 11 D5 (in), 12 D6 (in), 13 Q7 (out), 14 D7 (in), 15 ~{PE} (in), 16 VCC (power)

## CD74HCT166MT
designator U?
High Speed CMOS Logic 8-Bit Parallel-In/Serial-Out Shift Register, D0016A, SMALL T&R; Generic Part Number: CD74HCT166; Manufacturer: Texas Instruments; PartNumber: CD74HCT166MT; Technology Family: HCT; VCC(Min)(V): 4.5; VCC(Max)(V): 5.5; Voltage(Nom)(V): 5; F @ Nom Voltage(Max)(Mhz): 25; ICC @ Nom Voltage(Max)(mA): 0.08; tpd @ Nom Voltage(Max)(ns): 50; Output Drive (IOL/IOH)(Max)(mA): 4/-4; Input Type: TTL; 3-State Output: No; Rating: Catalog; Bits: 8; DatasheetVersion: SCHS157C; PackageReference: D0016A; Output Type: CMOS; Operating Temperature Range(C): -55 to 125; Code_JEDEC: MS-012 variation AC; ComponentLink1Description: Manufacturer URL; ComponentLink1URL: http://www.ti.com/; ComponentLink2Description: Datasheet; ComponentLink2URL: http://www.ti.com/lit/ds/symlink/cd74hct166.pdf; ComponentLink3Description: Package Specification; ComponentLink3URL: http://www.ti.com/lit/ml/mpds178g/mpds178g.pdf
footprint D0016A_N (SOIC, 16-Leads, Body 10x4mm, Pitch 1.27mm, IPC Medium Density)
footprint D0016A_M (SOIC, 16-Leads, Body 10x4mm, Pitch 1.27mm, IPC Low Density)
footprint D0016A_L (SOIC, 16-Leads, Body 10x4mm, Pitch 1.27mm, IPC High Density)
pins: 1 DS (in), 2 D0 (in), 3 D1 (in), 4 D2 (in), 5 D3 (in), 6 ~{CE} (in), 7 CP (in), 8 GND (power), 9 ~{MR} (in), 10 D4 (in), 11 D5 (in), 12 D6 (in), 13 Q7 (out), 14 D7 (in), 15 ~{PE} (in), 16 VCC (power)

## CD74HCT173E
designator U?
High Speed CMOS Logic Quad D-Type Flip-Flops with 3-State Outputs, N0016A, TUBE; Generic Part Number: CD74HCT173; Manufacturer: Texas Instruments; PartNumber: CD74HCT173E; VCC(Min)(V): 4.5; VCC(Max)(V): 5.5; ICC @ Nom Voltage(Max)(mA): 0.08; Input Type: TTL; Bits(#): 4; F @ Nom Voltage(Max)(Mhz): 25; Rating: Catalog; Technology Family: HCT; Voltage(Nom)(V): 5; Schmitt Trigger: No; Output Drive (IOL/IOH)(Max)(mA): 6/-6; Output Logic: Non-inverted; 3-State Output: Yes; tpd @ Nom Voltage(Max)(ns): 50; DatasheetVersion: SCHS158E; PackageReference: N0016A; Supplier 1: Digi-Key; Supplier Part Number 1: 296-33135-5-ND; Supplier 2: Farnell; Supplier Part Number 2: 1749915; Supplier 3: Newark; Supplier Part Number 3: 06F2910; Supplier 4: Mouser; Supplier Part Number 4: 595-CD74HCT173E; Output Type: CMOS; Operating Temperature Range(C): -55 to 125; Code_JEDEC: MS-001; ComponentLink1Description: Manufacturer URL; ComponentLink1URL: http://www.ti.com/; ComponentLink2Description: Datasheet; ComponentLink2URL: http://www.ti.com/lit/ds/symlink/cd74hct173.pdf; ComponentLink3Description: Package Specification; ComponentLink3URL: http://www.ti.com/lit/ml/mpdi002c/mpdi002c.pdf
footprint N0016A (DIP, 16-Leads, Body 19.7x6.6mm, Pitch 2.54mm)
part A pins: 1 OE1 (in), 2 OE2 (in), 3 Q0 (hiz), 4 Q1 (hiz), 5 Q2 (hiz), 6 Q3 (hiz), 7 CP (in), 9 E1 (in), 10 E2 (in), 11 D3 (in), 12 D2 (in), 13 D1 (in), 14 D0 (in), 15 MR (in)
part B pins: 8 GND (power), 16 VCC (power)

## CD74HCT173M
designator U?
High Speed CMOS Logic Quad D-Type Flip-Flops with 3-State Outputs, D0016A, TUBE; Generic Part Number: CD74HCT173; Manufacturer: Texas Instruments; PartNumber: CD74HCT173M; VCC(Min)(V): 4.5; VCC(Max)(V): 5.5; ICC @ Nom Voltage(Max)(mA): 0.08; Input Type: TTL; Bits(#): 4; F @ Nom Voltage(Max)(Mhz): 25; Rating: Catalog; Technology Family: HCT; Voltage(Nom)(V): 5; Schmitt Trigger: No; Output Drive (IOL/IOH)(Max)(mA): 6/-6; Output Logic: Non-inverted; 3-State Output: Yes; tpd @ Nom Voltage(Max)(ns): 50; DatasheetVersion: SCHS158E; PackageReference: D0016A; Supplier 1: Digi-Key; Supplier Part Number 1: CD74HCT173M-ND; Supplier 2: Farnell; Supplier Part Number 2: 1739851; Supplier 3: Mouser; Supplier Part Number 3: 595-CD74HCT173M; Output Type: CMOS; Operating Temperature Range(C): -55 to 125; Code_JEDEC: MS-012 variation AC; ComponentLink1Description: Manufacturer URL; ComponentLink1URL: http://www.ti.com/; ComponentLink2Description: Datasheet; ComponentLink2URL: http://www.ti.com/lit/ds/symlink/cd74hct173.pdf; ComponentLink3Description: Package Specification; ComponentLink3URL: http://www.ti.com/lit/ml/mpds178g/mpds178g.pdf
footprint D0016A_N (SOIC, 16-Leads, Body 10x4mm, Pitch 1.27mm, IPC Medium Density)
footprint D0016A_M (SOIC, 16-Leads, Body 10x4mm, Pitch 1.27mm, IPC Low Density)
footprint D0016A_L (SOIC, 16-Leads, Body 10x4mm, Pitch 1.27mm, IPC High Density)
part A pins: 1 OE1 (in), 2 OE2 (in), 3 Q0 (hiz), 4 Q1 (hiz), 5 Q2 (hiz), 6 Q3 (hiz), 7 CP (in), 9 E1 (in), 10 E2 (in), 11 D3 (in), 12 D2 (in), 13 D1 (in), 14 D0 (in), 15 MR (in)
part B pins: 8 GND (power), 16 VCC (power)

## CD74HCT173M96
designator U?
High Speed CMOS Logic Quad D-Type Flip-Flops with 3-State Outputs, D0016A, LARGE T&R; Generic Part Number: CD74HCT173; Manufacturer: Texas Instruments; PartNumber: CD74HCT173M96; VCC(Min)(V): 4.5; VCC(Max)(V): 5.5; ICC @ Nom Voltage(Max)(mA): 0.08; Input Type: TTL; Bits(#): 4; F @ Nom Voltage(Max)(Mhz): 25; Rating: Catalog; Technology Family: HCT; Voltage(Nom)(V): 5; Schmitt Trigger: No; Output Drive (IOL/IOH)(Max)(mA): 6/-6; Output Logic: Non-inverted; 3-State Output: Yes; tpd @ Nom Voltage(Max)(ns): 50; DatasheetVersion: SCHS158E; PackageReference: D0016A; Supplier 1: Digi-Key; Supplier Part Number 1: 296-31605-2-ND; Supplier 2: Digi-Key; Supplier Part Number 2: 296-31605-1-ND; Supplier 3: Digi-Key; Supplier Part Number 3: 296-31605-6-ND; Supplier 4: Mouser; Supplier Part Number 4: 595-CD74HCT173M96; Output Type: CMOS; Operating Temperature Range(C): -55 to 125; Code_JEDEC: MS-012 variation AC; ComponentLink1Description: Manufacturer URL; ComponentLink1URL: http://www.ti.com/; ComponentLink2Description: Datasheet; ComponentLink2URL: http://www.ti.com/lit/ds/symlink/cd74hct173.pdf; ComponentLink3Description: Package Specification; ComponentLink3URL: http://www.ti.com/lit/ml/mpds178g/mpds178g.pdf
footprint D0016A_N (SOIC, 16-Leads, Body 10x4mm, Pitch 1.27mm, IPC Medium Density)
footprint D0016A_M (SOIC, 16-Leads, Body 10x4mm, Pitch 1.27mm, IPC Low Density)
footprint D0016A_L (SOIC, 16-Leads, Body 10x4mm, Pitch 1.27mm, IPC High Density)
part A pins: 1 OE1 (in), 2 OE2 (in), 3 Q0 (hiz), 4 Q1 (hiz), 5 Q2 (hiz), 6 Q3 (hiz), 7 CP (in), 9 E1 (in), 10 E2 (in), 11 D3 (in), 12 D2 (in), 13 D1 (in), 14 D0 (in), 15 MR (in)
part B pins: 8 GND (power), 16 VCC (power)

## CD74HCT173MT
designator U?
High Speed CMOS Logic Quad D-Type Flip-Flops with 3-State Outputs, D0016A, SMALL T&R; Generic Part Number: CD74HCT173; Manufacturer: Texas Instruments; PartNumber: CD74HCT173MT; VCC(Min)(V): 4.5; VCC(Max)(V): 5.5; ICC @ Nom Voltage(Max)(mA): 0.08; Input Type: TTL; Bits(#): 4; F @ Nom Voltage(Max)(Mhz): 25; Rating: Catalog; Technology Family: HCT; Voltage(Nom)(V): 5; Schmitt Trigger: No; Output Drive (IOL/IOH)(Max)(mA): 6/-6; Output Logic: Non-inverted; 3-State Output: Yes; tpd @ Nom Voltage(Max)(ns): 50; DatasheetVersion: SCHS158E; PackageReference: D0016A; Supplier 1: Digi-Key; Supplier Part Number 1: CD74HCT173MT-ND; Supplier 2: Newark; Supplier Part Number 2: 90H0667; Supplier 3: Mouser; Supplier Part Number 3: 595-CD74HCT173MT; Output Type: CMOS; Operating Temperature Range(C): -55 to 125; Code_JEDEC: MS-012 variation AC; ComponentLink1Description: Manufacturer URL; ComponentLink1URL: http://www.ti.com/; ComponentLink2Description: Datasheet; ComponentLink2URL: http://www.ti.com/lit/ds/symlink/cd74hct173.pdf; ComponentLink3Description: Package Specification; ComponentLink3URL: http://www.ti.com/lit/ml/mpds178g/mpds178g.pdf
footprint D0016A_N (SOIC, 16-Leads, Body 10x4mm, Pitch 1.27mm, IPC Medium Density)
footprint D0016A_M (SOIC, 16-Leads, Body 10x4mm, Pitch 1.27mm, IPC Low Density)
footprint D0016A_L (SOIC, 16-Leads, Body 10x4mm, Pitch 1.27mm, IPC High Density)
part A pins: 1 OE1 (in), 2 OE2 (in), 3 Q0 (hiz), 4 Q1 (hiz), 5 Q2 (hiz), 6 Q3 (hiz), 7 CP (in), 9 E1 (in), 10 E2 (in), 11 D3 (in), 12 D2 (in), 13 D1 (in), 14 D0 (in), 15 MR (in)
part B pins: 8 GND (power), 16 VCC (power)

## CD74HCT174E
designator U?
High Speed CMOS Logic Hex D-Type Flip-Flop with Reset, N0016A, TUBE; Generic Part Number: CD74HCT174; Manufacturer: Texas Instruments; PartNumber: CD74HCT174E; VCC(Min)(V): 4.5; VCC(Max)(V): 5.5; ICC @ Nom Voltage(Max)(mA): 0.08; Input Type: TTL; Bits(#): 6; F @ Nom Voltage(Max)(Mhz): 25; Rating: Catalog; Technology Family: HCT; Voltage(Nom)(V): 5; Schmitt Trigger: No; Output Drive (IOL/IOH)(Max)(mA): 4/-4; Output Logic: Non-inverted; tpd @ Nom Voltage(Max)(ns): 50; DatasheetVersion: SCHS159C; PackageReference: N0016A; Supplier 1: Digi-Key; Supplier Part Number 1: 296-2100-5-ND; Supplier 2: Farnell; Supplier Part Number 2: 1105983; Supplier 3: Newark; Supplier Part Number 3: 25M8595; Supplier 4: Mouser; Supplier Part Number 4: 595-CD74HCT174E; Output Type: CMOS; Operating Temperature Range(C): -55 to 125; 3-State Output: No; Code_JEDEC: MS-001; ComponentLink1Description: Manufacturer URL; ComponentLink1URL: http://www.ti.com/; ComponentLink2Description: Datasheet; ComponentLink2URL: http://www.ti.com/lit/ds/symlink/cd74hct174.pdf; ComponentLink3Description: Package Specification; ComponentLink3URL: http://www.ti.com/lit/ml/mpdi002c/mpdi002c.pdf
footprint N0016A (DIP, 16-Leads, Body 19.7x6.6mm, Pitch 2.54mm)
part A pins: 1 MR (in), 2 Q0 (out), 3 D0 (in), 4 D1 (in), 5 Q1 (out), 6 D2 (in), 7 Q2 (out), 9 CP (in), 10 Q3 (out), 11 D3 (in), 12 Q4 (out), 13 D4 (in), 14 D5 (in), 15 Q5 (out)
part B pins: 8 GND (power), 16 VCC (power)

## CD74HCT174M
designator U?
High Speed CMOS Logic Hex D-Type Flip-Flop with Reset, D0016A, TUBE; Generic Part Number: CD74HCT174; Manufacturer: Texas Instruments; PartNumber: CD74HCT174M; VCC(Min)(V): 4.5; VCC(Max)(V): 5.5; ICC @ Nom Voltage(Max)(mA): 0.08; Input Type: TTL; Bits(#): 6; F @ Nom Voltage(Max)(Mhz): 25; Rating: Catalog; Technology Family: HCT; Voltage(Nom)(V): 5; Schmitt Trigger: No; Output Drive (IOL/IOH)(Max)(mA): 4/-4; Output Logic: Non-inverted; tpd @ Nom Voltage(Max)(ns): 50; DatasheetVersion: SCHS159C; PackageReference: D0016A; Supplier 1: Digi-Key; Supplier Part Number 1: 296-9260-5-ND; Supplier 2: Farnell; Supplier Part Number 2: 1103139; Supplier 3: Newark; Supplier Part Number 3: 25M8596; Supplier 4: Mouser; Supplier Part Number 4: 595-CD74HCT174M; Output Type: CMOS; Operating Temperature Range(C): -55 to 125; 3-State Output: No; Code_JEDEC: MS-012 variation AC; ComponentLink1Description: Manufacturer URL; ComponentLink1URL: http://www.ti.com/; ComponentLink2Description: Datasheet; ComponentLink2URL: http://www.ti.com/lit/ds/symlink/cd74hct174.pdf; ComponentLink3Description: Package Specification; ComponentLink3URL: http://www.ti.com/lit/ml/mpds178g/mpds178g.pdf
footprint D0016A_N (SOIC, 16-Leads, Body 10x4mm, Pitch 1.27mm, IPC Medium Density)
footprint D0016A_M (SOIC, 16-Leads, Body 10x4mm, Pitch 1.27mm, IPC Low Density)
footprint D0016A_L (SOIC, 16-Leads, Body 10x4mm, Pitch 1.27mm, IPC High Density)
part A pins: 1 MR (in), 2 Q0 (out), 3 D0 (in), 4 D1 (in), 5 Q1 (out), 6 D2 (in), 7 Q2 (out), 9 CP (in), 10 Q3 (out), 11 D3 (in), 12 Q4 (out), 13 D4 (in), 14 D5 (in), 15 Q5 (out)
part B pins: 8 GND (power), 16 VCC (power)

## CD74HCT174M96
designator U?
High Speed CMOS Logic Hex D-Type Flip-Flop with Reset, D0016A, LARGE T&R; Generic Part Number: CD74HCT174; Manufacturer: Texas Instruments; PartNumber: CD74HCT174M96; VCC(Min)(V): 4.5; VCC(Max)(V): 5.5; ICC @ Nom Voltage(Max)(mA): 0.08; Input Type: TTL; Bits(#): 6; F @ Nom Voltage(Max)(Mhz): 25; Rating: Catalog; Technology Family: HCT; Voltage(Nom)(V): 5; Schmitt Trigger: No; Output Drive (IOL/IOH)(Max)(mA): 4/-4; Output Logic: Non-inverted; tpd @ Nom Voltage(Max)(ns): 50; DatasheetVersion: SCHS159C; PackageReference: D0016A; Supplier 1: Digi-Key; Supplier Part Number 1: 296-12836-2-ND; Supplier 2: Digi-Key; Supplier Part Number 2: 296-12836-1-ND; Supplier 3: Digi-Key; Supplier Part Number 3: 296-12836-6-ND; Supplier 4: Newark; Supplier Part Number 4: 05B6034; Supplier 5: Mouser; Supplier Part Number 5: 595-CD74HCT174M96; Output Type: CMOS; Operating Temperature Range(C): -55 to 125; 3-State Output: No; Code_JEDEC: MS-012 variation AC; ComponentLink1Description: Manufacturer URL; ComponentLink1URL: http://www.ti.com/; ComponentLink2Description: Datasheet; ComponentLink2URL: http://www.ti.com/lit/ds/symlink/cd74hct174.pdf; ComponentLink3Description: Package Specification; ComponentLink3URL: http://www.ti.com/lit/ml/mpds178g/mpds178g.pdf
footprint D0016A_N (SOIC, 16-Leads, Body 10x4mm, Pitch 1.27mm, IPC Medium Density)
footprint D0016A_M (SOIC, 16-Leads, Body 10x4mm, Pitch 1.27mm, IPC Low Density)
footprint D0016A_L (SOIC, 16-Leads, Body 10x4mm, Pitch 1.27mm, IPC High Density)
part A pins: 1 MR (in), 2 Q0 (out), 3 D0 (in), 4 D1 (in), 5 Q1 (out), 6 D2 (in), 7 Q2 (out), 9 CP (in), 10 Q3 (out), 11 D3 (in), 12 Q4 (out), 13 D4 (in), 14 D5 (in), 15 Q5 (out)
part B pins: 8 GND (power), 16 VCC (power)

## CD74HCT174MT
designator U?
High Speed CMOS Logic Hex D-Type Flip-Flop with Reset, D0016A, SMALL T&R; Generic Part Number: CD74HCT174; Manufacturer: Texas Instruments; PartNumber: CD74HCT174MT; VCC(Min)(V): 4.5; VCC(Max)(V): 5.5; ICC @ Nom Voltage(Max)(mA): 0.08; Input Type: TTL; Bits(#): 6; F @ Nom Voltage(Max)(Mhz): 25; Rating: Catalog; Technology Family: HCT; Voltage(Nom)(V): 5; Schmitt Trigger: No; Output Drive (IOL/IOH)(Max)(mA): 4/-4; Output Logic: Non-inverted; tpd @ Nom Voltage(Max)(ns): 50; DatasheetVersion: SCHS159C; PackageReference: D0016A; Supplier 1: Digi-Key; Supplier Part Number 1: CD74HCT174MT-ND; Supplier 2: Mouser; Supplier Part Number 2: 595-CD74HCT174MT; Output Type: CMOS; Operating Temperature Range(C): -55 to 125; 3-State Output: No; Code_JEDEC: MS-012 variation AC; ComponentLink1Description: Manufacturer URL; ComponentLink1URL: http://www.ti.com/; ComponentLink2Description: Datasheet; ComponentLink2URL: http://www.ti.com/lit/ds/symlink/cd74hct174.pdf; ComponentLink3Description: Package Specification; ComponentLink3URL: http://www.ti.com/lit/ml/mpds178g/mpds178g.pdf
footprint D0016A_N (SOIC, 16-Leads, Body 10x4mm, Pitch 1.27mm, IPC Medium Density)
footprint D0016A_M (SOIC, 16-Leads, Body 10x4mm, Pitch 1.27mm, IPC Low Density)
footprint D0016A_L (SOIC, 16-Leads, Body 10x4mm, Pitch 1.27mm, IPC High Density)
part A pins: 1 MR (in), 2 Q0 (out), 3 D0 (in), 4 D1 (in), 5 Q1 (out), 6 D2 (in), 7 Q2 (out), 9 CP (in), 10 Q3 (out), 11 D3 (in), 12 Q4 (out), 13 D4 (in), 14 D5 (in), 15 Q5 (out)
part B pins: 8 GND (power), 16 VCC (power)